# Altium schematic symbol library SIHFR120-GE3.SchLib: 1 symbol
Pins are listed as number, name and electrical type; pins without a type are passive.

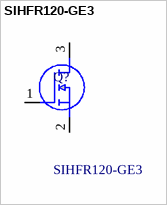
[diagram p0: symbol SIHFR120-GE3]

## SIHFR120-GE3
designator Q?
MOSFET 100V N-CH; Manufacturer_Name: Vishay; Geometry.Height: 2.38mm; Mouser Part Number: 78-SIHFR120-GE3; Mouser Price/Stock: https://www.mouser.co.uk/ProductDetail/Vishay-Siliconix/SIHFR120-GE3?qs=FfLXECYddQTykmVhSg2%2FTQ%3D%3D; Manufacturer_Part_Number: SIHFR120-GE3; Datasheet Link: https://www.mouser.in/datasheet/2/427/91266-1768752.pdf
footprint SIHFR120GE3
pins: 1 G, 2 S, 3 D